# EAGLE library part SN74LVC4245 (library Lysenko_Eagle_Lib)
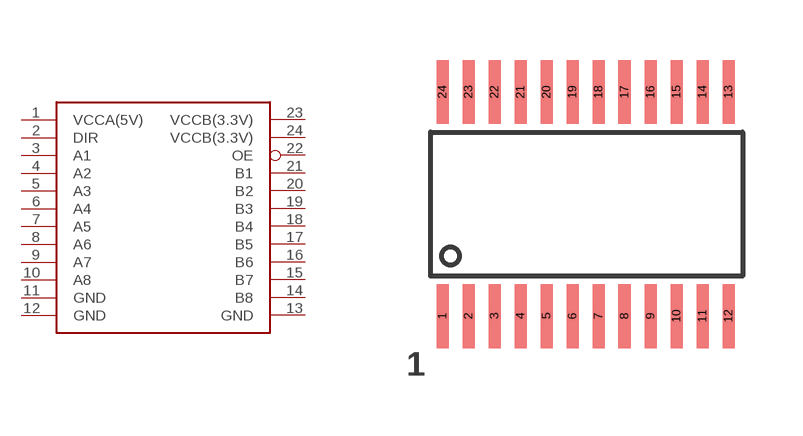
[diagram p16: symbol with the pads of SN74LVC4245; footprint SN74LVC4245]

Designator prefix -

## SN74LVC4245  [SN74LVC4245]
1  VCCA(5V)
2  DIR
3  A1
4  A2
5  A3
6  A4
7  A5
8  A6
9  A7
10  A8
11  GND
12  GND
13  GND
14  B8
15  B7
16  B6
17  B5
18  B4
19  B3
20  B2
21  B1
22  OE
23  VCCB(3.3V)
24  VCCB(3.3V)

## Footprint SN74LVC4245 (pad centres in mm)
smd 0.3 x 1.6: 1 0,0; 2 0.65,0; 3 1.3,0; 4 1.95,0; 5 2.6,0; 6 3.25,0; 7 3.9,0; 8 4.55,0; 9 5.2,0; 10 5.85,0; 11 6.5,0; 12 7.15,0; 13 7.15,5.6; 14 6.5,5.6; 15 5.85,5.6; 16 5.2,5.6; 17 4.55,5.6; 18 3.9,5.6; 19 3.25,5.6; 20 2.6,5.6; 21 1.95,5.6; 22 1.3,5.6; 23 0.65,5.6; 24 0,5.6